# Altium footprint library S6LDC115-2002-1-1.PcbLib: 41 footprints (part 3 of 3)
Each footprint in its own frame and in the unit in brackets; x right, y up, seen from the top. Pads: shape width x height; smd on the part's side, far side on the other; paste and mask are expansions set on the pad; w line width, h text height; cw(c..) or ccw(c..) is an arc to the next point about the centre after c.
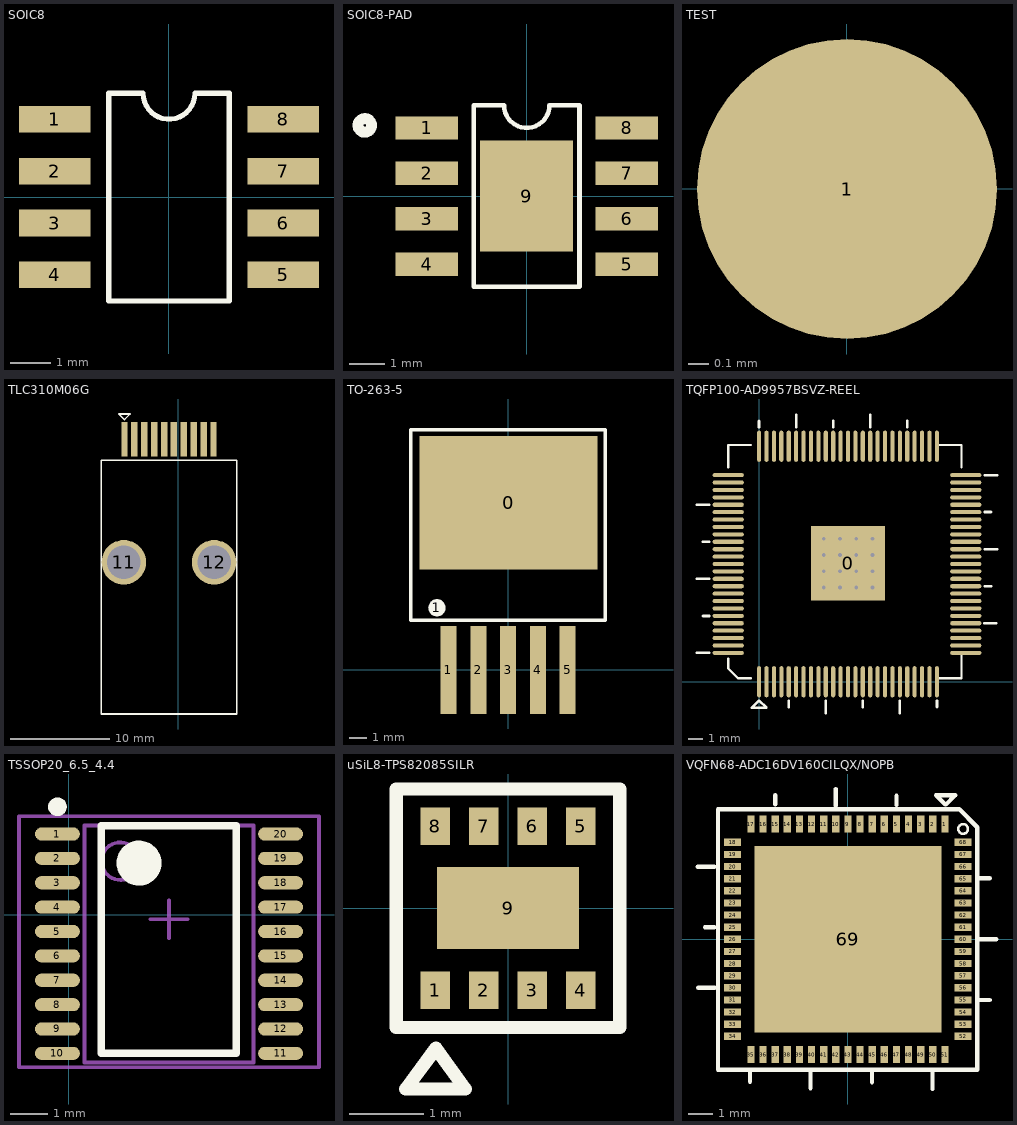
[diagram p2: the footprints below, top view; thin cyan lines are the x and y axes]

## SOIC8 [mm]
pads (8):
  rect 1.75x0.65 smd: 1(-2.794,1.905) 2(-2.794,0.635) 3(-2.794,-0.635) 4(-2.794,-1.905) 5(2.794,-1.905) 6(2.794,-0.635) 7(2.794,0.635) 8(2.794,1.905)
Top Overlay:
  lines w0.127: -1.475,2.54 -1.475,-2.54 1.473,-2.54 ; -1.473,2.54 -0.635,2.54 ccw(c0,2.54) 0.635,2.54 1.473,2.54 ; 1.475,-2.54 1.475,2.54

## SOIC8-PAD [mm]
height 3.2
pads (9):
  rect 1.75x0.65 smd: 1(-2.794,1.905) 2(-2.794,0.635) 3(-2.794,-0.635) 4(-2.794,-1.905) 5(2.794,-1.905) 6(2.794,-0.635) 7(2.794,0.635) 8(2.794,1.905)
  rect 2.6x3.1 smd: 9(0,0)
Top Overlay:
  circle w0.3: c-4.525,1.975 r0.19
  lines w0.127: -1.475,2.54 -1.475,-2.54 1.473,-2.54 ; -1.473,2.54 -0.635,2.54 ccw(c0,2.54) 0.635,2.54 1.473,2.54 ; 1.475,-2.54 1.475,2.54

## TEST [mm]
pads (1):
  round 1.5 smd: 1(0,0)

## TLC310M06G [mm]
pads (12):
  rect 0.65x3.5 smd: 1(-5.461,-8.255) 2(-4.461,-8.255) 3(-3.461,-8.255) 4(-2.461,-8.255) 5(-1.461,-8.255) 6(-0.461,-8.255) 7(0.539,-8.255) 8(1.539,-8.255) 9(2.539,-8.255) 10(3.539,-8.255)
  round 4.5 hole 3.4: 11(-5.531,-20.695) 12(3.609,-20.695)
Top Overlay:
  lines w0.178: -5.486,-6.248 -6.045,-5.69 -4.902,-5.69 -5.461,-6.248 ; -7.821,-36.045 -7.821,-10.363 5.899,-10.363 5.899,-36.045 -7.821,-36.045

## TO-263-5 [mm]
height 0.55
pads (7):
  rect 10.16x7.62 smd: 0(0.025,9.55)
  round 1 on Top Overlay: 1(-4.064,3.556)
  rect 0.914x5.03 smd: 1(-3.41,0) 2(-1.7,0) 3(0,0) 4(1.7,0) 5(3.4,0)
Top Overlay:
  lines w0.2: -5.563,2.845 5.563,2.845 5.563,13.741 2.485,13.741 -2.485,13.741 -5.563,13.741 -5.563,2.845

## TQFP100-AD9957BSVZ-REEL [mm]
pads (101):
  rect 5x5 smd: 0(6,8)
  oval 0.28x2.1 smd: 1(0,0) 2(0.5,0) 3(1,0) 4(1.5,0) 5(2,0) 6(2.5,0) 7(3,0) 8(3.5,0) 9(4,0) 10(4.5,0) 11(5,0) 12(5.5,0) 13(6,0) 14(6.5,0) 15(7,0) 16(7.5,0) 17(8,0) 18(8.5,0) 19(9,0) 20(9.5,0) 21(10,0) 22(10.5,0) 23(11,0) 24(11.5,0) 25(12,0) 51(12,15.9) 52(11.5,15.9) 53(11,15.9) 54(10.5,15.9) 55(10,15.9) 56(9.5,15.9) 57(9,15.9) 58(8.5,15.9) 59(8,15.9) 60(7.5,15.9) 61(7,15.9) 62(6.5,15.9) 63(6,15.9) 64(5.5,15.9) 65(5,15.9) 66(4.5,15.9) 67(4,15.9) 68(3.5,15.9) 69(3,15.9) 70(2.5,15.9) 71(2,15.9) 72(1.498,15.9) 73(1,15.9) 74(0.5,15.9) 75(0,15.9)
  oval 2.1x0.28 smd: 26(13.95,1.95) 27(13.95,2.45) 28(13.95,2.95) 29(13.95,3.45) 30(13.95,3.95) 31(13.95,4.45) 32(13.95,4.95) 33(13.95,5.45) 34(13.95,5.95) 35(13.95,6.45) 36(13.95,6.95) 37(13.95,7.45) 38(13.95,7.95) 39(13.95,8.45) 40(13.95,8.95) 41(13.95,9.45) 42(13.95,9.95) 43(13.95,10.45) 44(13.95,10.95) 45(13.95,11.45) 46(13.95,11.95) 47(13.95,12.45) 48(13.95,12.95) 49(13.95,13.45) 50(13.95,13.95) 76(-2.085,13.95) 77(-2.085,13.45) 78(-2.085,12.95) 79(-2.085,12.45) 80(-2.085,11.95) 81(-2.085,11.45) 82(-2.085,10.95) 83(-2.085,10.45) 84(-2.085,9.95) 85(-2.085,9.45) 86(-2.085,8.95) 87(-2.085,8.45) 88(-2.085,7.95) 89(-2.085,7.45) 90(-2.085,6.95) 91(-2.085,6.45) 92(-2.085,5.95) 93(-2.085,5.45) 94(-2.085,4.95) 95(-2.085,4.45) 96(-2.085,3.95) 97(-2.085,3.45) 98(-2.085,2.95) 99(-2.085,2.45) 100(-2.085,1.95)
via 4.359,6.359 diameter 0.457 hole 0.254
via 5.459,6.359 diameter 0.457 hole 0.254
via 4.359,7.459 diameter 0.457 hole 0.254
via 7.659,9.659 diameter 0.457 hole 0.254
via 7.659,8.559 diameter 0.457 hole 0.254
via 7.659,7.459 diameter 0.457 hole 0.254
via 7.659,6.359 diameter 0.457 hole 0.254
via 6.559,9.659 diameter 0.457 hole 0.254
via 6.559,8.559 diameter 0.457 hole 0.254
via 6.559,7.459 diameter 0.457 hole 0.254
via 6.559,6.359 diameter 0.457 hole 0.254
via 5.459,9.659 diameter 0.457 hole 0.254
via 5.459,8.559 diameter 0.457 hole 0.254
via 5.459,7.459 diameter 0.457 hole 0.254
via 4.359,9.659 diameter 0.457 hole 0.254
via 4.359,8.559 diameter 0.457 hole 0.254
Top Overlay:
  lines w0.152: -2.083,1.575 -2.083,0.889 -1.428,0.234 -0.559,0.234
  lines w0.154: -2.083,14.458 -2.083,15.982 -0.559,15.982 ; 12.141,0.234 13.665,0.234 13.665,1.758 ; 12.141,15.982 13.665,15.982 13.665,14.458
  lines w0.178: -4.193,1.954 -3.381,1.954 ; -4.193,6.954 -3.381,6.954 ; -4.191,11.957 -3.378,11.957 ; -3.787,4.443 -3.355,4.443 ; -3.787,9.443 -3.355,9.443 ; -0.007,17.17 -0.007,17.602 ; 2.007,-1.702 2.007,-1.27 ; 2.504,17.195 2.504,18.008 ; 4.496,-2.108 4.496,-1.295 ; 4.993,17.17 4.993,17.602 ; 7.007,-1.702 7.007,-1.27 ; 7.504,17.195 7.504,18.008 ; 9.496,-2.108 9.496,-1.295 ; 9.993,17.17 9.993,17.602 ; 12.007,-1.702 12.007,-1.27 ; 15.189,3.944 16.002,3.944 ; 15.22,6.457 15.652,6.457 ; 15.22,11.457 15.652,11.457 ; 15.245,8.946 16.058,8.946 ; 15.245,13.946 16.058,13.946 ; -0.483,-1.753 0.483,-1.753 0,-1.27 -0.483,-1.753

## TSSOP20_6.5_4.4 [mm]
pads (20):
  oval 1.2x0.35 smd: 1(-0.305,2.159) 2(-0.305,1.509) 3(-0.305,0.859) 4(-0.305,0.209) 5(-0.305,-0.441) 6(-0.305,-1.091) 7(-0.305,-1.741) 8(-0.305,-2.391) 9(-0.305,-3.041) 10(-0.305,-3.691) 11(5.645,-3.691) 12(5.645,-3.041) 13(5.645,-2.391) 14(5.645,-1.741) 15(5.645,-1.091) 16(5.645,-0.441) 17(5.645,0.209) 18(5.645,0.859) 19(5.645,1.509) 20(5.645,2.159)
Top Overlay:
  circle w0.6: c1.87,1.384 r0.3
  circle w0.25: c-0.305,2.884 r0.125
  lines w0.2: 0.87,-3.683 4.47,-3.683 4.47,2.384 0.87,2.384 0.87,-3.683
Mechanical 13:
  circle w0.1: c1.37,1.434 r0.5
  lines w0.1: 0.42,-3.937 4.92,-3.937 4.92,2.384 0.42,2.384 0.42,-3.937
Mechanical 15:
  lines w0.1: 2.17,-0.116 3.17,-0.116 ; 2.67,-0.616 2.67,0.384 ; -1.33,-4.064 6.67,-4.064 6.67,2.634 -1.33,2.634 -1.33,-4.064
3D body: height 2.65, standoff 0.1, extent 0.42,-3.683 4.92,2.384

## uSiL8-TPS82085SILR [mm]
pads (9):
  rect 0.4x0.5 smd: 1(-0.975,-1.1) 2(-0.325,-1.1) 3(0.325,-1.1) 4(0.975,-1.1) 5(0.975,1.1) 6(0.325,1.1) 7(-0.325,1.1) 8(-0.975,1.1)
  rect 1.9x1.1 smd: 9(0,0)
Top Overlay:
  lines w0.178: -1.5,-1.6 -1.5,1.6 1.5,1.6 1.5,-1.6 -1.5,-1.6 ; -1.373,-2.426 -0.965,-1.88 -0.573,-2.426 -1.373,-2.426

## VQFN68-ADC16DV160CILQX/NOPB [mm]
pads (69):
  rect 0.3x0.7 smd: 1(4,4.75) 2(3.5,4.75) 3(3,4.75) 4(2.5,4.75) 5(2,4.75) 6(1.5,4.75) 7(1,4.75) 8(0.5,4.75) 9(0,4.75) 10(-0.5,4.75) 11(-1,4.75) 12(-1.5,4.75) 13(-2,4.75) 14(-2.5,4.75) 15(-3,4.75) 16(-3.5,4.75) 17(-4,4.75) 35(-4,-4.75) 36(-3.5,-4.75) 37(-3,-4.75) 38(-2.5,-4.75) 39(-2,-4.75) 40(-1.5,-4.75) 41(-1,-4.75) 42(-0.5,-4.75) 43(0,-4.75) 44(0.5,-4.75) 45(1,-4.75) 46(1.5,-4.75) 47(2,-4.75) 48(2.5,-4.75) 49(3,-4.75) 50(3.5,-4.75) 51(4,-4.75)
  rect 0.7x0.3 smd: 18(-4.75,4) 19(-4.75,3.5) 20(-4.75,3) 21(-4.75,2.5) 22(-4.75,2) 23(-4.75,1.5) 24(-4.75,1) 25(-4.75,0.5) 26(-4.75,0) 27(-4.75,-0.5) 28(-4.75,-1) 29(-4.75,-1.5) 30(-4.75,-2) 31(-4.75,-2.5) 32(-4.75,-3) 33(-4.75,-3.5) 34(-4.75,-4) 52(4.75,-4) 53(4.75,-3.5) 54(4.75,-3) 55(4.75,-2.5) 56(4.75,-2) 57(4.75,-1.5) 58(4.75,-1) 59(4.75,-0.5) 60(4.75,0) 61(4.75,0.5) 62(4.75,1) 63(4.75,1.5) 64(4.75,2) 65(4.75,2.5) 66(4.75,3) 67(4.75,3.5) 68(4.75,4)
  rect 7.7x7.7 smd: 69(0,0)
Top Overlay:
  circle w0.1: c4.75,4.55 r0.2
  lines w0.178: -6.198,2.988 -5.512,2.988 ; -6.172,-1.998 -5.486,-1.998 ; -5.893,0.5 -5.512,0.5 ; -4.039,-5.867 -4.039,-5.486 ; -2.997,5.563 -2.997,5.944 ; -1.541,-6.147 -1.541,-5.461 ; -0.498,5.512 -0.498,6.198 ; 0.991,-5.893 0.991,-5.512 ; 2,5.537 2,5.918 ; 3.489,-6.172 3.489,-5.486 ; 4.013,5.563 3.632,5.944 4.42,5.944 4.039,5.563 ; 5.436,-0.002 6.121,-0.002 ; 5.461,-2.5 5.842,-2.5 ; 5.461,2.515 5.842,2.515 ; -5.359,-5.385 5.334,-5.385 5.334,4.623 4.588,5.369 -5.359,5.369 -5.359,-5.385